# EAGLE library part RASPBERRY_PI_ZERO_W_V1.1 (library EXCISS)
Raspberry Pi Zero W The Raspberry Pi Zero W extends the Pi Zero family and comes with added wireless LAN and Bluetooth connectivity. Links GPIO Pinout guide <https://pinout.xyz/> Product website <https://www.raspberrypi.org/products/raspberry-pi-zero-w/> Connectors needed: Power & SD: 0906-4-15-20-75-14-11-0 USB data: 0985-0-15-20-71-14-11-0 GPIO: BL 1X20G 2,54 Reichelt
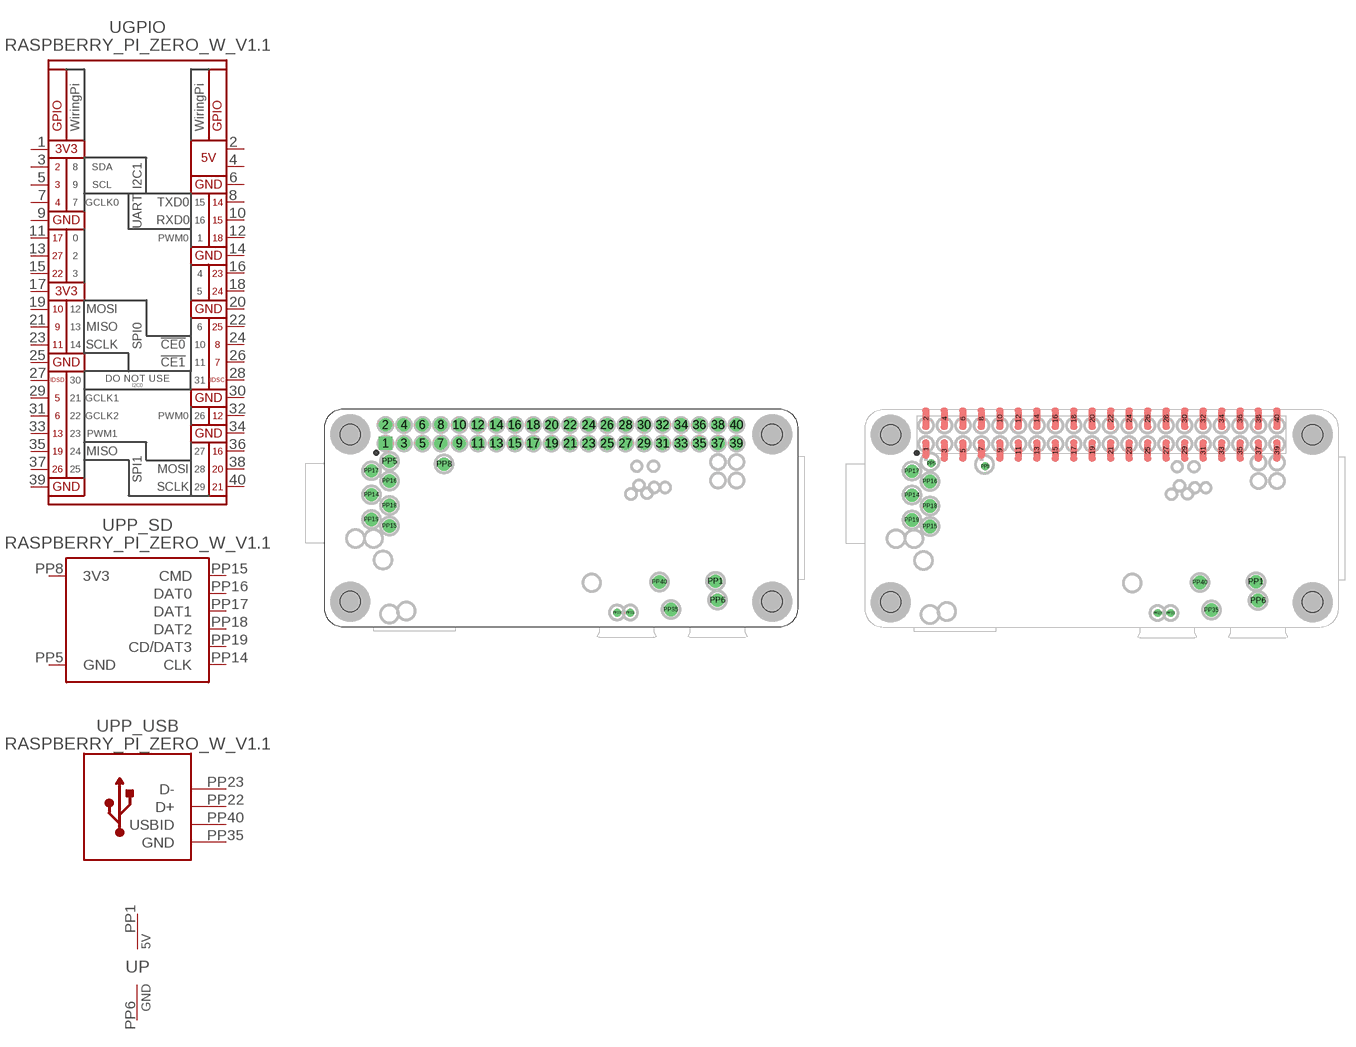
[diagram p1: symbol with the pads of RASPBERRY_PI_ZERO_W_V1.1; footprints RASPBERRY_PI_ZERO_W_V1.1, RASPBERRY_PI_ZERO_W_V1.1_SMD]

Designator prefix U; gates GPIO=RASPBERRY_PI_GPIO PP_SD=RASPBERRY_PI_MICROSD P=RASPBERRY_PI_PWR PP_USB=RASPBERRY_PI_USB

## RASPBERRY_PI_ZERO_W_V1.1  [RASPBERRY_PI_ZERO_W_V1.1]
1  GPIO:3V3  sup
2  GPIO:5V  sup
3  GPIO:GPIO2/SDA1
4  GPIO:5V  sup
5  GPIO:GPIO3/SCL1
6  GPIO:GND  sup
7  GPIO:GPIO4/GCKL
8  GPIO:GPIO14/TXD0
9  GPIO:GND  pwr
10  GPIO:GPIO15/RXD0
11  GPIO:GPIO17/GEN0
12  GPIO:GPIO18
13  GPIO:GPIO27/GEN2
14  GPIO:GND  sup
15  GPIO:GPIO22/GEN3
16  GPIO:GPIO23/GEN4
17  GPIO:3V3  sup
18  GPIO:GPIO24/GEN5
19  GPIO:GPIO10/MOSI
20  GPIO:GND  sup
21  GPIO:GPIO9/MISO
22  GPIO:GPIO25/GEN6
23  GPIO:GPIO11/SCLK
24  GPIO:GPIO8/!CE0!
25  GPIO:GND  sup
26  GPIO:GPIO7/!CE1!
27  GPIO:ID_SD
28  GPIO:ID_SC
29  GPIO:GPIO5
30  GPIO:GND  sup
31  GPIO:GPIO6
32  GPIO:GPIO12
33  GPIO:GPIO13
34  GPIO:GND  sup
35  GPIO:GPIO19
36  GPIO:GPIO16
37  GPIO:GPIO26
38  GPIO:GPIO20
39  GPIO:GND  sup
40  GPIO:GPIO21
PP1  P:5V  pwr
PP5  PP_SD:GND  sup
PP6  P:GND  pwr
PP8  PP_SD:3V3  sup
PP14  PP_SD:CLK
PP15  PP_SD:CMD
PP16  PP_SD:DAT0
PP17  PP_SD:DAT1
PP18  PP_SD:DAT2
PP19  PP_SD:CD/DAT3
PP22  PP_USB:D+
PP23  PP_USB:D-
PP35  PP_USB:GND  in
PP40  PP_USB:USBID  in

## RASPBERRY_PI_ZERO_W_V1.1_SMD  [RASPBERRY_PI_ZERO_W_V1.1_SMD]
Pads as for RASPBERRY_PI_ZERO_W_V1.1

## Footprint RASPBERRY_PI_ZERO_W_V1.1 (pad centres in mm)
drill 1.02 pad 1.8 square: 1 0,0
drill 1.02 pad 1.8: 2 0,2.54; 3 2.54,0; 4 2.54,2.54; 5 5.08,0; 6 5.08,2.54; 7 7.62,0; 8 7.62,2.54; 9 10.16,0; 10 10.16,2.54; 11 12.7,0; 12 12.7,2.54; 13 15.24,0; 14 15.24,2.54; 15 17.78,0; 16 17.78,2.54; 17 20.32,0; 18 20.32,2.54; 19 22.86,0; 20 22.86,2.54; 21 25.4,0; 22 25.4,2.54; 23 27.94,0; 24 27.94,2.54; 25 30.48,0; 26 30.48,2.54; 27 33.02,0; 28 33.02,2.54; 29 35.56,0; 30 35.56,2.54; 31 38.1,0; 32 38.1,2.54; 33 40.64,0; 34 40.64,2.54; 35 43.18,0; 36 43.18,2.54; 37 45.72,0; 38 45.72,2.54; 39 48.26,0; 40 48.26,2.54
drill 0.508 pad 1.829: PP1 45.36,-18.96; PP5 0.56,-2.46; PP6 45.66,-21.56; PP8 8.06,-2.86; PP14 -1.94,-7.06; PP15 0.56,-11.36; PP16 0.56,-5.16; PP17 -1.94,-3.76; PP18 0.56,-8.56; PP19 -1.94,-10.46; PP35 39.26,-22.86; PP40 37.66,-19.06
drill 0.5 pad 1.092: PP22 33.66,-23.26; PP23 31.86,-23.26
hole 2.8 at 53.16,1.24
hole 2.8 at 53.16,-21.76
hole 2.8 at -4.84,-21.76
hole 2.8 at -4.84,1.24

## Footprint RASPBERRY_PI_ZERO_W_V1.1_SMD (pad centres in mm)
smd 1.02 x 2.65: 1 0,-0.715; 7 7.62,-0.715
smd 1.02 x 3.05: 2 0,3.455; 3 2.54,-0.915; 4 2.54,3.455; 5 5.08,-0.915; 6 5.08,3.455; 8 7.62,3.455; 9 10.16,-0.915; 10 10.16,3.455; 11 12.7,-0.915; 12 12.7,3.455; 13 15.24,-0.915; 14 15.24,3.455; 15 17.78,-0.915; 16 17.78,3.455; 17 20.32,-0.915; 18 20.32,3.455; 19 22.86,-0.915; 20 22.86,3.455; 21 25.4,-0.915; 22 25.4,3.455; 23 27.94,-0.915; 24 27.94,3.455; 25 30.48,-0.915; 26 30.48,3.455; 27 33.02,-0.915; 28 33.02,3.455; 29 35.56,-0.915; 30 35.56,3.455; 31 38.1,-0.915; 32 38.1,3.455; 33 40.64,-0.915; 34 40.64,3.455; 35 43.18,-0.915; 36 43.18,3.455; 37 45.72,-0.915; 38 45.72,3.455; 39 48.26,-0.915; 40 48.26,3.455
drill 0.508 pad 1.829: PP1 45.36,-18.96; PP6 45.66,-21.56; PP14 -1.94,-7.06; PP15 0.56,-11.36; PP16 0.56,-5.16; PP17 -1.94,-3.76; PP18 0.56,-8.56; PP19 -1.94,-10.46; PP35 39.26,-22.86; PP40 37.66,-19.06
drill 0.406 pad 1.092: PP5 0.74,-2.7; PP8 8.16,-3.1
drill 0.5 pad 1.092: PP22 33.66,-23.26; PP23 31.86,-23.26
hole 2.8 at 53.16,1.24
hole 2.8 at 53.16,-21.76
hole 2.8 at -4.84,-21.76
hole 2.8 at -4.84,1.24